# Altium schematic symbol library KSZ9031RNXCC-TR.SchLib: 1 symbol
Pins are listed as number, name and electrical type; pins without a type are passive.

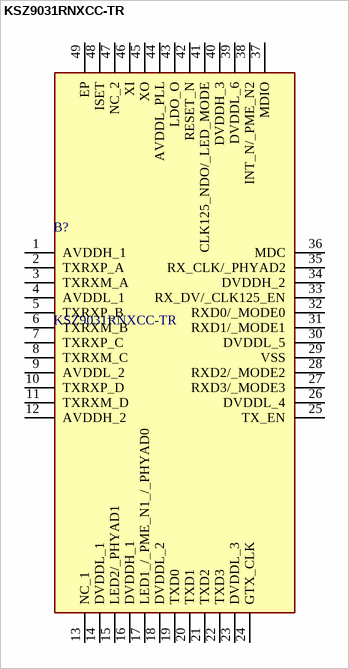
[diagram p0: symbol KSZ9031RNXCC-TR]

## KSZ9031RNXCC-TR
designator B?
MICROCHIP - KSZ9031RNXCC-TR - Ethernet Controller, 1 Gbps, IEEE 802.3, 1.14 V, 3.465 V, QFN, 48 Pins; Geometry.Height: 1mm; Manufacturer_Name: Microchip; Manufacturer_Part_Number: KSZ9031RNXCC-TR; Mouser Part Number: 998-KSZ9031RNXCCTR; Mouser Price/Stock: https://www.mouser.co.uk/ProductDetail/Microchip-Technology/KSZ9031RNXCC-TR?qs=U6T8BxXiZAVxmAZckgCcTw%3D%3D; Arrow Part Number: KSZ9031RNXCC-TR; Arrow Price/Stock: https://www.arrow.com/en/products/ksz9031rnxcc-tr/microchip-technology?region=nac; Datasheet Link: http://www.microchip.com/mymicrochip/filehandler.aspx?ddocname=en585516
footprint QFN50P700X700X100-49N-D
pins: 1 AVDDH_1, 2 TXRXP_A, 3 TXRXM_A, 4 AVDDL_1, 5 TXRXP_B, 6 TXRXM_B, 7 TXRXP_C, 8 TXRXM_C, 9 AVDDL_2, 10 TXRXP_D, 11 TXRXM_D, 12 AVDDH_2, 13 NC_1, 14 DVDDL_1, 15 LED2/_PHYAD1, 16 DVDDH_1, 17 LED1_/_PME_N1_/_PHYAD0, 18 DVDDL_2, 19 TXD0, 20 TXD1, 21 TXD2, 22 TXD3, 23 DVDDL_3, 24 GTX_CLK, 25 TX_EN, 26 DVDDL_4, 27 RXD3/_MODE3, 28 RXD2/_MODE2, 29 VSS, 30 DVDDL_5, 31 RXD1/_MODE1, 32 RXD0/_MODE0, 33 RX_DV/_CLK125_EN, 34 DVDDH_2, 35 RX_CLK/_PHYAD2, 36 MDC, 37 MDIO, 38 INT_N/_PME_N2, 39 DVDDL_6, 40 DVDDH_3, 41 CLK125_NDO/_LED_MODE, 42 RESET_N, 43 LDO_O, 44 AVDDL_PLL, 45 XO, 46 XI, 47 NC_2, 48 ISET, 49 EP